# Altium schematic symbol library Fuse.Schlib: 1 symbol
Pins are listed as number, name and electrical type; pins without a type are passive.

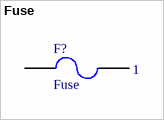
[diagram p0: symbol Fuse]

## Fuse
designator F?  value 1
simulation model FUSE (Spice Subcircuit)
signal-integrity model Fuse
pins: 1, 2